# Altium footprint library cap_footprints.PcbLib: 9 footprints
Each footprint in its own frame and in the unit in brackets; x right, y up, seen from the top. Pads: shape width x height; smd on the part's side, far side on the other; paste and mask are expansions set on the pad; w line width, h text height; cw(c..) or ccw(c..) is an arc to the next point about the centre after c.
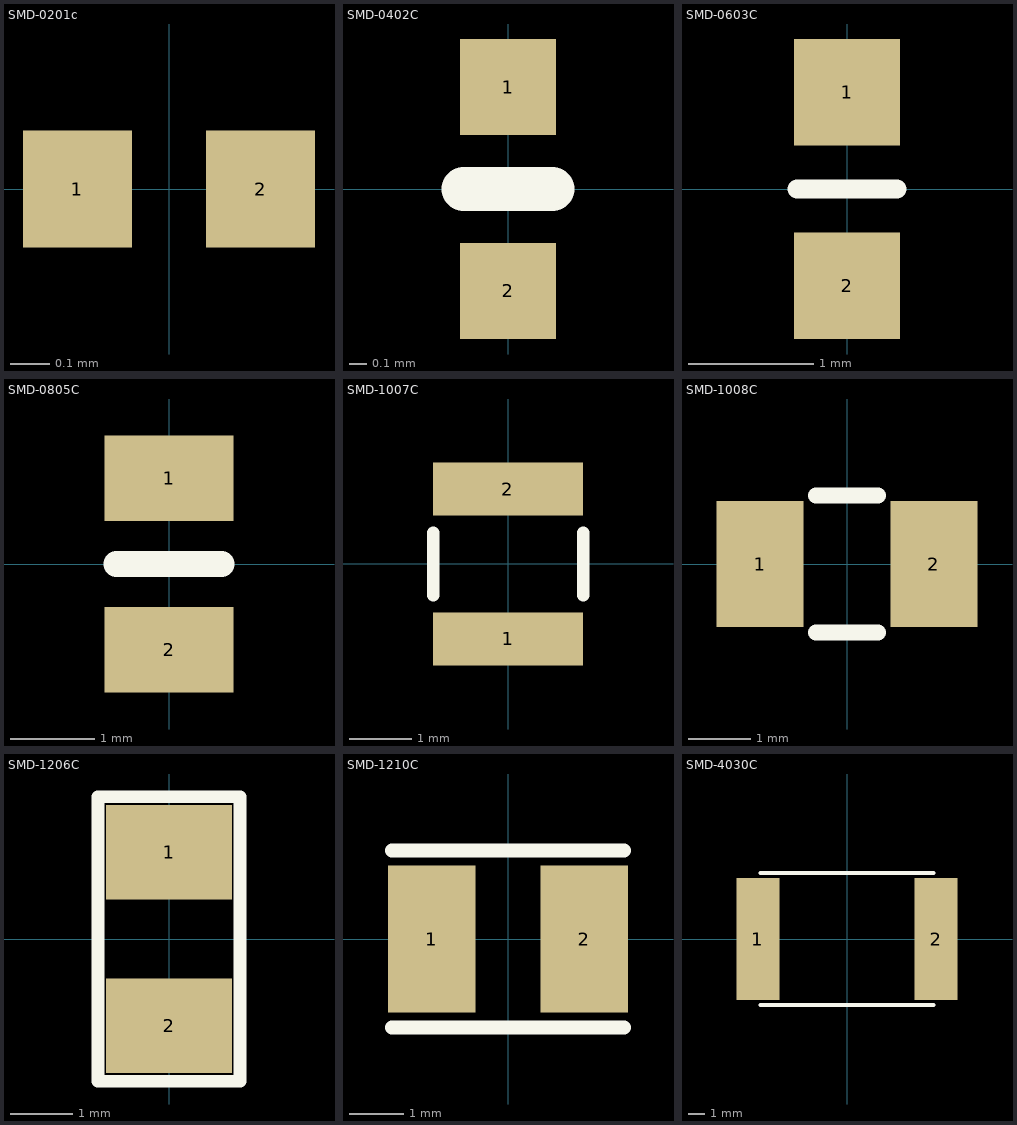
[diagram p0: the footprints below, top view; thin cyan lines are the x and y axes]

## SMD-0201c [mm] "SMD-0201"
height 0.25
pads (2):
  rect 0.28x0.3 smd: 1(-0.235,0) 2(0.235,0)
3D body: height 0.3, standoff 0, extent -0.3,-0.152 0.3,0.148

## SMD-0402C [mm]
pads (2):
  rect 0.55x0.55 smd: 1(0,0.584) 2(0,-0.584)
Top Overlay:
  lines w0.254: -0.254,0 0.254,0
3D body: height 0.51, standoff 0, extent -0.254,-0.508 0.254,0.508

## SMD-0603C [mm]
pads (2):
  rect 0.85x0.85 smd: 1(0,0.775) 2(0,-0.775)
Top Overlay:
  lines w0.152: -0.4,0 0.4,0
3D body: height 0.9, standoff 0, extent -0.4,-0.8 0.4,0.8

## SMD-0805C [mil]
pads (2):
  rect 60x40 smd: 1(0,40) 2(0,-40)
Top Overlay:
  lines w12: -24.6,0.01 24.6,0.01
3D body: height 35.43, standoff 0, extent -24.6,-39.36 24.6,39.38

## SMD-1007C [mm] "2.5mm x 1.8mm"
height 2
pads (2):
  rect 2.4x0.85 smd: 1(0,-1.2) 2(0,1.2)
Top Overlay:
  lines w0.2: -1.2,-0.5 -1.2,0.5 ; 1.2,-0.5 1.2,0.5
3D body: height 1.8, standoff 0, extent -0.9,-0.8 0.9,0.8
3D body: height 1.8, standoff 0, extent -0.9,-1.35 0.9,-0.8
3D body: height 1.8, standoff 0, extent -0.9,0.8 0.9,1.35

## SMD-1008C [mil]
pads (2):
  rect 55x80 smd: 1(-55,0) 2(55,0)
Top Overlay:
  lines w10: -19.68,-43.31 19.68,-43.31 ; -19.68,43.31 19.68,43.31
3D body: height 79.23, standoff -0.49, extent -53.94,-39.72 53.94,40

## SMD-1206C [mil]
pads (2):
  rect 80x60 smd: 1(0,55) 2(0,-55)
Top Overlay:
  lines w8: -45,-90 45,-90 45,90 -45,90 -45,-90
3D body: height 39.37, standoff 0, extent -31.49,-62.99 31.5,63

## SMD-1210C [mm]
height 0.5
pads (2):
  rect 1.6x2.7 smd: 1(-1.4,0) 2(1.4,0)
Top Overlay:
  lines w0.254: -2.125,-1.625 2.125,-1.625 ; -2.125,1.625 2.125,1.625
3D body: height 1.7, standoff 0, extent -2,-1.219 2,1.27

## SMD-4030C [mm] "~13x7mm"
pads (2):
  rect 2.6x7.4 smd: 1(-5.4,0) 2(5.4,0)
Top Overlay:
  lines w0.254: -5.25,-4 5.25,-4 ; -5.25,4 5.25,4